# Altium schematic symbol library HM2101NLT.SchLib: 1 symbol
Pins are listed as number, name and electrical type; pins without a type are passive.

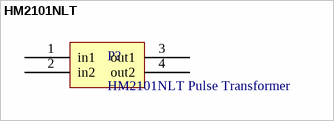
[diagram p0: symbol HM2101NLT]

## HM2101NLT
designator P?, comment HM2101NLT Pulse Transformer
XFMR CMC MODULE AECQ BATT MNGT; Manufacturer 1: Pulse Electronics; Supplier 1: Digi-Key; Manufacturer Part Number 1: HM2101NLT; Stock 1: 1410; Pricing 1: 1=4.47000, 10=3.61900, 25=2.92600, 50=2.74120, 100=2.61800, 250=2.54100 (USD); RoHS: No; ComponentLink1URL: https://productfinder.pulseeng.com/doc_type/WEB301/doc_num/HM2101NL/doc_part/HM2101NL.pdf?src-supplier=Digi-Key; ComponentLink1Description: https://productfinder.pulseeng.com/doc_type/WEB301/doc_num/HM2101NL/doc_part/HM2101NL.pdf?src-supplier=Digi-Key; Supplier Part Number 1: 1840-1033-1-ND
footprint HM2101NLT
pins: 1 in1, 2 in2, 3 out1, 4 out2